# Altium footprint library Connector_Molex.PcbLib: 815 footprints (part 38 of 51)
Each footprint in its own frame and in the unit in brackets; x right, y up, seen from the top. Pads: shape width x height; smd on the part's side, far side on the other; paste and mask are expansions set on the pad; w line width, h text height; cw(c..) or ccw(c..) is an arc to the next point about the centre after c.
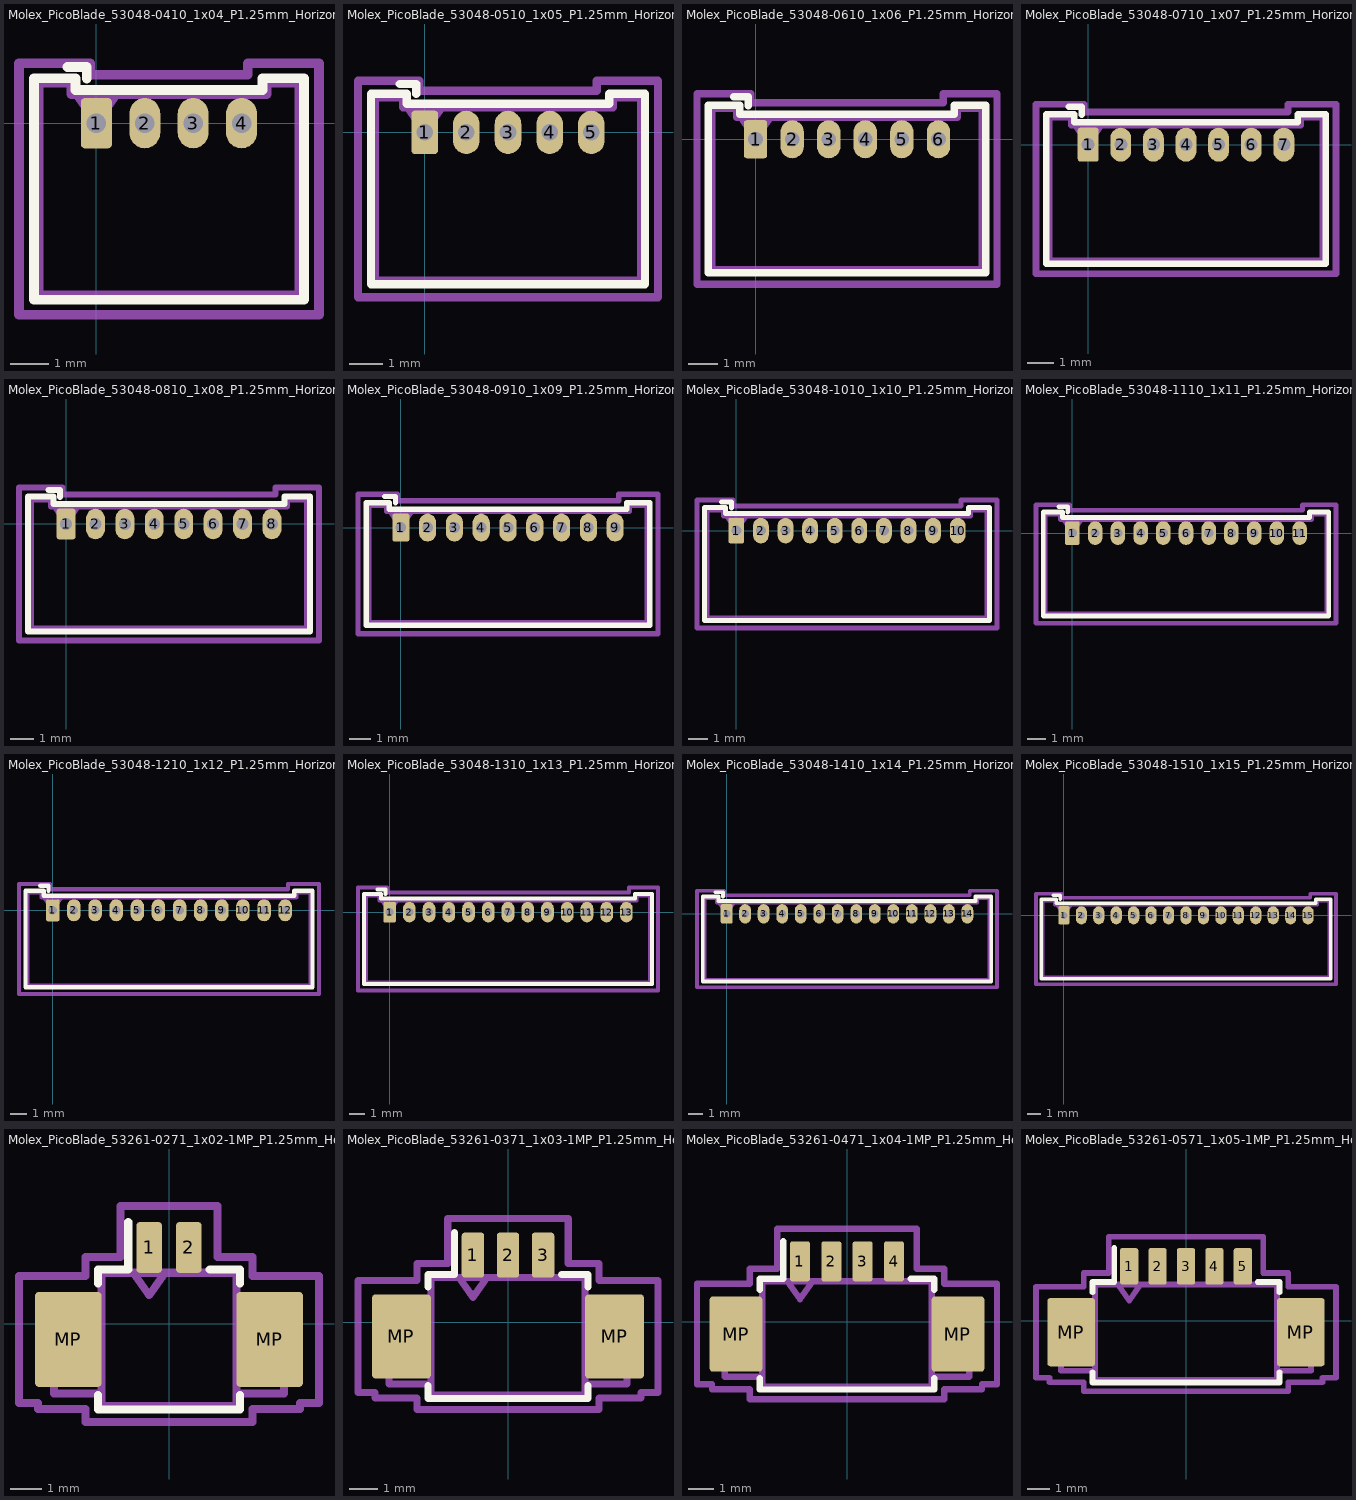
[diagram p37: the footprints below, top view; thin cyan lines are the x and y axes]

## Molex_PicoBlade_53048-0410_1x04_P1.25mm_Horizontal [mm]
pads (4):
  rrect25% 0.8x1.3 hole 0.5: 1(0,0)
  rrect100% 0.8x1.3 hole 0.5: 2(1.25,0) 3(2.5,0) 4(3.75,0)
F.SilkS:
  lines w0.254: -0.75,1.45 -0.25,1.45 -0.25,1.15 ; -1.61,-4.56 1.875,-4.56 5.36,-4.56 5.36,1.16 4.29,1.16 4.29,0.86 1.875,0.86 -0.54,0.86 -0.54,1.16 -1.61,1.16 -1.61,-4.56
Top Assembly:
  lines w0.254: -0.5,0.75 0,0.043 0.5,0.75 ; -1.5,-4.45 1.875,-4.45 5.25,-4.45 5.25,1.05 4.4,1.05 4.4,0.75 1.875,0.75 -0.65,0.75 -0.65,1.05 -1.5,1.05 -1.5,-4.45
  text "'.Designator'" at -2.167,-4.59 h1
Top Courtyard:
  lines w0.254: 1.87,-4.95 5.75,-4.95 5.75,1.55 3.91,1.55 3.91,1.25 1.87,1.25 ; 1.88,-4.95 -2,-4.95 -2,1.55 -0.16,1.55 -0.16,1.25 1.88,1.25
Top Designator:
  text ".Designator" at -5.837,-2.208 h1.52

## Molex_PicoBlade_53048-0510_1x05_P1.25mm_Horizontal [mm]
pads (5):
  rrect25% 0.8x1.3 hole 0.5: 1(0,0)
  rrect100% 0.8x1.3 hole 0.5: 2(1.25,0) 3(2.5,0) 4(3.75,0) 5(5,0)
F.SilkS:
  lines w0.254: -0.75,1.45 -0.25,1.45 -0.25,1.15 ; -1.61,-4.56 2.5,-4.56 6.61,-4.56 6.61,1.16 5.54,1.16 5.54,0.86 2.5,0.86 -0.54,0.86 -0.54,1.16 -1.61,1.16 -1.61,-4.56
Top Assembly:
  lines w0.254: -0.5,0.75 0,0.043 0.5,0.75 ; -1.5,-4.45 2.5,-4.45 6.5,-4.45 6.5,1.05 5.65,1.05 5.65,0.75 2.5,0.75 -0.65,0.75 -0.65,1.05 -1.5,1.05 -1.5,-4.45
  text "'.Designator'" at -1.547,-4.59 h1
Top Courtyard:
  lines w0.254: -2,-4.95 2.5,-4.95 7,-4.95 7,1.55 5.16,1.55 5.16,1.25 2.5,1.25 -0.16,1.25 -0.16,1.55 -2,1.55 -2,-4.95
Top Designator:
  text ".Designator" at -5.118,-2.208 h1.52

## Molex_PicoBlade_53048-0610_1x06_P1.25mm_Horizontal [mm]
pads (6):
  rrect25% 0.8x1.3 hole 0.5: 1(0,0)
  rrect100% 0.8x1.3 hole 0.5: 2(1.25,0) 3(2.5,0) 4(3.75,0) 5(5,0) 6(6.25,0)
F.SilkS:
  lines w0.254: -0.75,1.45 -0.25,1.45 -0.25,1.15 ; -1.61,-4.56 3.125,-4.56 7.86,-4.56 7.86,1.16 6.79,1.16 6.79,0.86 3.125,0.86 -0.54,0.86 -0.54,1.16 -1.61,1.16 -1.61,-4.56
Top Assembly:
  lines w0.254: -0.5,0.75 0,0.043 0.5,0.75 ; -1.5,-4.45 3.125,-4.45 7.75,-4.45 7.75,1.05 6.9,1.05 6.9,0.75 3.125,0.75 -0.65,0.75 -0.65,1.05 -1.5,1.05 -1.5,-4.45
  text "'.Designator'" at -0.927,-4.59 h1
Top Courtyard:
  lines w0.254: 3.12,-4.95 8.25,-4.95 8.25,1.55 6.41,1.55 6.41,1.25 3.12,1.25 ; 3.13,-4.95 -2,-4.95 -2,1.55 -0.16,1.55 -0.16,1.25 3.13,1.25
Top Designator:
  text ".Designator" at -4.493,-2.208 h1.52

## Molex_PicoBlade_53048-0710_1x07_P1.25mm_Horizontal [mm]
pads (7):
  rrect25% 0.8x1.3 hole 0.5: 1(0,0)
  rrect100% 0.8x1.3 hole 0.5: 2(1.25,0) 3(2.5,0) 4(3.75,0) 5(5,0) 6(6.25,0) 7(7.5,0)
F.SilkS:
  lines w0.254: -0.75,1.45 -0.25,1.45 -0.25,1.15 ; -1.61,-4.56 3.75,-4.56 9.11,-4.56 9.11,1.16 8.04,1.16 8.04,0.86 3.75,0.86 -0.54,0.86 -0.54,1.16 -1.61,1.16 -1.61,-4.56
Top Assembly:
  lines w0.254: -0.5,0.75 0,0.043 0.5,0.75 ; -1.5,-4.45 3.75,-4.45 9,-4.45 9,1.05 8.15,1.05 8.15,0.75 3.75,0.75 -0.65,0.75 -0.65,1.05 -1.5,1.05 -1.5,-4.45
  text "'.Designator'" at -0.297,-4.59 h1
Top Courtyard:
  lines w0.254: -2,-4.95 3.75,-4.95 9.5,-4.95 9.5,1.55 7.66,1.55 7.66,1.25 3.75,1.25 -0.16,1.25 -0.16,1.55 -2,1.55 -2,-4.95
Top Designator:
  text ".Designator" at -3.868,-2.208 h1.52

## Molex_PicoBlade_53048-0810_1x08_P1.25mm_Horizontal [mm]
pads (8):
  rrect25% 0.8x1.3 hole 0.5: 1(0,0)
  rrect100% 0.8x1.3 hole 0.5: 2(1.25,0) 3(2.5,0) 4(3.75,0) 5(5,0) 6(6.25,0) 7(7.5,0) 8(8.75,0)
F.SilkS:
  lines w0.254: -0.75,1.45 -0.25,1.45 -0.25,1.15 ; -1.61,-4.56 4.375,-4.56 10.36,-4.56 10.36,1.16 9.29,1.16 9.29,0.86 4.375,0.86 -0.54,0.86 -0.54,1.16 -1.61,1.16 -1.61,-4.56
Top Assembly:
  lines w0.254: -0.5,0.75 0,0.043 0.5,0.75 ; -1.5,-4.45 4.375,-4.45 10.25,-4.45 10.25,1.05 9.4,1.05 9.4,0.75 4.375,0.75 -0.65,0.75 -0.65,1.05 -1.5,1.05 -1.5,-4.45
  text "'.Designator'" at 0.333,-4.59 h1
Top Courtyard:
  lines w0.254: 4.37,-4.95 10.75,-4.95 10.75,1.55 8.91,1.55 8.91,1.25 4.37,1.25 ; 4.38,-4.95 -2,-4.95 -2,1.55 -0.16,1.55 -0.16,1.25 4.38,1.25
Top Designator:
  text ".Designator" at -3.243,-2.208 h1.52

## Molex_PicoBlade_53048-0910_1x09_P1.25mm_Horizontal [mm]
pads (9):
  rrect25% 0.8x1.3 hole 0.5: 1(0,0)
  rrect100% 0.8x1.3 hole 0.5: 2(1.25,0) 3(2.5,0) 4(3.75,0) 5(5,0) 6(6.25,0) 7(7.5,0) 8(8.75,0) 9(10,0)
F.SilkS:
  lines w0.254: -0.75,1.45 -0.25,1.45 -0.25,1.15 ; -1.61,-4.56 5,-4.56 11.61,-4.56 11.61,1.16 10.54,1.16 10.54,0.86 5,0.86 -0.54,0.86 -0.54,1.16 -1.61,1.16 -1.61,-4.56
Top Assembly:
  lines w0.254: -0.5,0.75 0,0.043 0.5,0.75 ; -1.5,-4.45 5,-4.45 11.5,-4.45 11.5,1.05 10.65,1.05 10.65,0.75 5,0.75 -0.65,0.75 -0.65,1.05 -1.5,1.05 -1.5,-4.45
  text "'.Designator'" at 0.953,-4.59 h1
Top Courtyard:
  lines w0.254: -2,-4.95 5,-4.95 12,-4.95 12,1.55 10.16,1.55 10.16,1.25 5,1.25 -0.16,1.25 -0.16,1.55 -2,1.55 -2,-4.95
Top Designator:
  text ".Designator" at -2.618,-2.208 h1.52

## Molex_PicoBlade_53048-1010_1x10_P1.25mm_Horizontal [mm]
pads (10):
  rrect25% 0.8x1.3 hole 0.5: 1(0,0)
  rrect100% 0.8x1.3 hole 0.5: 2(1.25,0) 3(2.5,0) 4(3.75,0) 5(5,0) 6(6.25,0) 7(7.5,0) 8(8.75,0) 9(10,0) 10(11.25,0)
F.SilkS:
  lines w0.254: -0.75,1.45 -0.25,1.45 -0.25,1.15 ; -1.61,-4.56 5.625,-4.56 12.86,-4.56 12.86,1.16 11.79,1.16 11.79,0.86 5.625,0.86 -0.54,0.86 -0.54,1.16 -1.61,1.16 -1.61,-4.56
Top Assembly:
  lines w0.254: -0.5,0.75 0,0.043 0.5,0.75 ; -1.5,-4.45 5.625,-4.45 12.75,-4.45 12.75,1.05 11.9,1.05 11.9,0.75 5.625,0.75 -0.65,0.75 -0.65,1.05 -1.5,1.05 -1.5,-4.45
  text "'.Designator'" at 1.573,-4.59 h1
Top Courtyard:
  lines w0.254: 5.62,-4.95 13.25,-4.95 13.25,1.55 11.41,1.55 11.41,1.25 5.62,1.25 ; 5.63,-4.95 -2,-4.95 -2,1.55 -0.16,1.55 -0.16,1.25 5.63,1.25
Top Designator:
  text ".Designator" at -1.993,-2.208 h1.52

## Molex_PicoBlade_53048-1110_1x11_P1.25mm_Horizontal [mm]
pads (11):
  rrect25% 0.8x1.3 hole 0.5: 1(0,0)
  rrect100% 0.8x1.3 hole 0.5: 2(1.25,0) 3(2.5,0) 4(3.75,0) 5(5,0) 6(6.25,0) 7(7.5,0) 8(8.75,0) 9(10,0) 10(11.25,0) 11(12.5,0)
F.SilkS:
  lines w0.254: -0.75,1.45 -0.25,1.45 -0.25,1.15 ; -1.61,-4.56 6.25,-4.56 14.11,-4.56 14.11,1.16 13.04,1.16 13.04,0.86 6.25,0.86 -0.54,0.86 -0.54,1.16 -1.61,1.16 -1.61,-4.56
Top Assembly:
  lines w0.254: -0.5,0.75 0,0.043 0.5,0.75 ; -1.5,-4.45 6.25,-4.45 14,-4.45 14,1.05 13.15,1.05 13.15,0.75 6.25,0.75 -0.65,0.75 -0.65,1.05 -1.5,1.05 -1.5,-4.45
  text "'.Designator'" at 2.203,-4.59 h1
Top Courtyard:
  lines w0.254: -2,-4.95 6.25,-4.95 14.5,-4.95 14.5,1.55 12.66,1.55 12.66,1.25 6.25,1.25 -0.16,1.25 -0.16,1.55 -2,1.55 -2,-4.95
Top Designator:
  text ".Designator" at -1.368,-2.208 h1.52

## Molex_PicoBlade_53048-1210_1x12_P1.25mm_Horizontal [mm]
pads (12):
  rrect25% 0.8x1.3 hole 0.5: 1(0,0)
  rrect100% 0.8x1.3 hole 0.5: 2(1.25,0) 3(2.5,0) 4(3.75,0) 5(5,0) 6(6.25,0) 7(7.5,0) 8(8.75,0) 9(10,0) 10(11.25,0) 11(12.5,0) 12(13.75,0)
F.SilkS:
  lines w0.254: -0.75,1.45 -0.25,1.45 -0.25,1.15 ; -1.61,-4.56 6.875,-4.56 15.36,-4.56 15.36,1.16 14.29,1.16 14.29,0.86 6.875,0.86 -0.54,0.86 -0.54,1.16 -1.61,1.16 -1.61,-4.56
Top Assembly:
  lines w0.254: -0.5,0.75 0,0.043 0.5,0.75 ; -1.5,-4.45 6.875,-4.45 15.25,-4.45 15.25,1.05 14.4,1.05 14.4,0.75 6.875,0.75 -0.65,0.75 -0.65,1.05 -1.5,1.05 -1.5,-4.45
  text "'.Designator'" at 2.833,-4.59 h1
Top Courtyard:
  lines w0.254: 6.87,-4.95 15.75,-4.95 15.75,1.55 13.91,1.55 13.91,1.25 6.87,1.25 ; 6.88,-4.95 -2,-4.95 -2,1.55 -0.16,1.55 -0.16,1.25 6.88,1.25
Top Designator:
  text ".Designator" at -0.743,-2.208 h1.52

## Molex_PicoBlade_53048-1310_1x13_P1.25mm_Horizontal [mm]
pads (13):
  rrect25% 0.8x1.3 hole 0.5: 1(0,0)
  rrect100% 0.8x1.3 hole 0.5: 2(1.25,0) 3(2.5,0) 4(3.75,0) 5(5,0) 6(6.25,0) 7(7.5,0) 8(8.75,0) 9(10,0) 10(11.25,0) 11(12.5,0) 12(13.75,0) 13(15,0)
F.SilkS:
  lines w0.254: -0.75,1.45 -0.25,1.45 -0.25,1.15 ; -1.61,-4.56 7.5,-4.56 16.61,-4.56 16.61,1.16 15.54,1.16 15.54,0.86 7.5,0.86 -0.54,0.86 -0.54,1.16 -1.61,1.16 -1.61,-4.56
Top Assembly:
  lines w0.254: -0.5,0.75 0,0.043 0.5,0.75 ; -1.5,-4.45 7.5,-4.45 16.5,-4.45 16.5,1.05 15.65,1.05 15.65,0.75 7.5,0.75 -0.65,0.75 -0.65,1.05 -1.5,1.05 -1.5,-4.45
  text "'.Designator'" at 3.453,-4.59 h1
Top Courtyard:
  lines w0.254: -2,-4.95 7.5,-4.95 17,-4.95 17,1.55 15.16,1.55 15.16,1.25 7.5,1.25 -0.16,1.25 -0.16,1.55 -2,1.55 -2,-4.95
Top Designator:
  text ".Designator" at -0.118,-2.208 h1.52

## Molex_PicoBlade_53048-1410_1x14_P1.25mm_Horizontal [mm]
pads (14):
  rrect25% 0.8x1.3 hole 0.5: 1(0,0)
  rrect100% 0.8x1.3 hole 0.5: 2(1.25,0) 3(2.5,0) 4(3.75,0) 5(5,0) 6(6.25,0) 7(7.5,0) 8(8.75,0) 9(10,0) 10(11.25,0) 11(12.5,0) 12(13.75,0) 13(15,0) 14(16.25,0)
F.SilkS:
  lines w0.254: -0.75,1.45 -0.25,1.45 -0.25,1.15 ; -1.61,-4.56 8.125,-4.56 17.86,-4.56 17.86,1.16 16.79,1.16 16.79,0.86 8.125,0.86 -0.54,0.86 -0.54,1.16 -1.61,1.16 -1.61,-4.56
Top Assembly:
  lines w0.254: -0.5,0.75 0,0.043 0.5,0.75 ; -1.5,-4.45 8.125,-4.45 17.75,-4.45 17.75,1.05 16.9,1.05 16.9,0.75 8.125,0.75 -0.65,0.75 -0.65,1.05 -1.5,1.05 -1.5,-4.45
  text "'.Designator'" at 4.073,-4.59 h1
Top Courtyard:
  lines w0.254: 8.12,-4.95 18.25,-4.95 18.25,1.55 16.41,1.55 16.41,1.25 8.12,1.25 ; 8.13,-4.95 -2,-4.95 -2,1.55 -0.16,1.55 -0.16,1.25 8.13,1.25
Top Designator:
  text ".Designator" at 0.507,-2.208 h1.52

## Molex_PicoBlade_53048-1510_1x15_P1.25mm_Horizontal [mm]
pads (15):
  rrect25% 0.8x1.3 hole 0.5: 1(0,0)
  rrect100% 0.8x1.3 hole 0.5: 2(1.25,0) 3(2.5,0) 4(3.75,0) 5(5,0) 6(6.25,0) 7(7.5,0) 8(8.75,0) 9(10,0) 10(11.25,0) 11(12.5,0) 12(13.75,0) 13(15,0) 14(16.25,0) 15(17.5,0)
F.SilkS:
  lines w0.254: -0.75,1.45 -0.25,1.45 -0.25,1.15 ; -1.61,-4.56 8.75,-4.56 19.11,-4.56 19.11,1.16 18.04,1.16 18.04,0.86 8.75,0.86 -0.54,0.86 -0.54,1.16 -1.61,1.16 -1.61,-4.56
Top Assembly:
  lines w0.254: -0.5,0.75 0,0.043 0.5,0.75 ; -1.5,-4.45 8.75,-4.45 19,-4.45 19,1.05 18.15,1.05 18.15,0.75 8.75,0.75 -0.65,0.75 -0.65,1.05 -1.5,1.05 -1.5,-4.45
  text "'.Designator'" at 4.703,-4.59 h1
Top Courtyard:
  lines w0.254: -2,-4.95 8.75,-4.95 19.5,-4.95 19.5,1.55 17.66,1.55 17.66,1.25 8.75,1.25 -0.16,1.25 -0.16,1.55 -2,1.55 -2,-4.95
Top Designator:
  text ".Designator" at 1.132,-2.208 h1.52

## Molex_PicoBlade_53261-0271_1x02-1MP_P1.25mm_Horizontal [mm]
pads (4):
  rrect25% 0.8x1.6 smd: 1(-0.625,2.4) 2(0.625,2.4)
  rrect12% 2.1x3 smd: MP(-3.175,-0.5) MP(3.175,-0.5)
F.SilkS:
  lines w0.254: -2.235,-2.26 -2.235,-2.71 2.235,-2.71 2.235,-2.26 ; -2.235,1.26 -2.235,1.71 -1.285,1.71 -1.285,3.2 ; 1.285,1.71 2.235,1.71 2.235,1.26
Top Assembly:
  lines w0.254: -2.125,-2.2 -3.625,-2.2 -3.625,-1.6 -3.825,-1.4 -3.825,0.4 -3.625,0.6 -2.125,0.6 ; -1.125,1.6 -0.625,0.893 -0.125,1.6 ; 2.125,-2.2 3.625,-2.2 3.625,-1.6 3.825,-1.4 3.825,0.4 3.625,0.6 2.125,0.6 ; -2.125,-2.6 2.125,-2.6 2.125,1.6 -2.125,1.6 -2.125,-2.6
  text "'.Designator'" at -4.047,-2.74 h1
Top Courtyard:
  lines w0.254: -4.73,-2.5 -4.13,-2.5 -4.13,-2.7 -2.63,-2.7 -2.63,-3.1 2.63,-3.1 2.63,-2.7 4.13,-2.7 4.13,-2.5 4.73,-2.5 4.73,1.5 2.63,1.5 2.63,2.1 1.53,2.1 1.53,3.7 -1.53,3.7 -1.53,2.1 -2.63,2.1 -2.63,1.5 -4.73,1.5 -4.73,-2.5
Top Designator:
  text ".Designator" at -7.618,-0.208 h1.52

## Molex_PicoBlade_53261-0371_1x03-1MP_P1.25mm_Horizontal [mm]
pads (5):
  rrect25% 0.8x1.6 smd: 1(-1.25,2.4) 2(0,2.4) 3(1.25,2.4)
  rrect12% 2.1x3 smd: MP(-3.8,-0.5) MP(3.8,-0.5)
F.SilkS:
  lines w0.254: -2.86,-2.26 -2.86,-2.71 2.86,-2.71 2.86,-2.26 ; -2.86,1.26 -2.86,1.71 -1.91,1.71 -1.91,3.2 ; 1.91,1.71 2.86,1.71 2.86,1.26
Top Assembly:
  lines w0.254: -2.75,-2.2 -4.25,-2.2 -4.25,-1.6 -4.45,-1.4 -4.45,0.4 -4.25,0.6 -2.75,0.6 ; -1.75,1.6 -1.25,0.893 -0.75,1.6 ; 2.75,-2.2 4.25,-2.2 4.25,-1.6 4.45,-1.4 4.45,0.4 4.25,0.6 2.75,0.6 ; -2.75,-2.6 2.75,-2.6 2.75,1.6 -2.75,1.6 -2.75,-2.6
  text "'.Designator'" at -4.047,-2.74 h1
Top Courtyard:
  lines w0.254: -5.35,-2.5 -4.75,-2.5 -4.75,-2.7 -3.25,-2.7 -3.25,-3.1 3.25,-3.1 3.25,-2.7 4.75,-2.7 4.75,-2.5 5.35,-2.5 5.35,1.5 3.25,1.5 3.25,2.1 2.15,2.1 2.15,3.7 -2.15,3.7 -2.15,2.1 -3.25,2.1 -3.25,1.5 -5.35,1.5 -5.35,-2.5
Top Designator:
  text ".Designator" at -7.618,-0.208 h1.52

## Molex_PicoBlade_53261-0471_1x04-1MP_P1.25mm_Horizontal [mm]
pads (6):
  rrect25% 0.8x1.6 smd: 1(-1.875,2.4) 2(-0.625,2.4) 3(0.625,2.4) 4(1.875,2.4)
  rrect12% 2.1x3 smd: MP(-4.425,-0.5) MP(4.425,-0.5)
F.SilkS:
  lines w0.254: -3.485,-2.26 -3.485,-2.71 3.485,-2.71 3.485,-2.26 ; -3.485,1.26 -3.485,1.71 -2.535,1.71 -2.535,3.2 ; 2.535,1.71 3.485,1.71 3.485,1.26
Top Assembly:
  lines w0.254: -3.375,-2.2 -4.875,-2.2 -4.875,-1.6 -5.075,-1.4 -5.075,0.4 -4.875,0.6 -3.375,0.6 ; -2.375,1.6 -1.875,0.893 -1.375,1.6 ; 3.375,-2.2 4.875,-2.2 4.875,-1.6 5.075,-1.4 5.075,0.4 4.875,0.6 3.375,0.6 ; -3.375,-2.6 3.375,-2.6 3.375,1.6 -3.375,1.6 -3.375,-2.6
  text "'.Designator'" at -4.047,-2.74 h1
Top Courtyard:
  lines w0.254: -5.98,-2.5 -5.38,-2.5 -5.38,-2.7 -3.88,-2.7 -3.88,-3.1 3.88,-3.1 3.88,-2.7 5.38,-2.7 5.38,-2.5 5.98,-2.5 5.98,1.5 3.88,1.5 3.88,2.1 2.78,2.1 2.78,3.7 -2.78,3.7 -2.78,2.1 -3.88,2.1 -3.88,1.5 -5.98,1.5 -5.98,-2.5
Top Designator:
  text ".Designator" at -7.618,-0.208 h1.52

## Molex_PicoBlade_53261-0571_1x05-1MP_P1.25mm_Horizontal [mm]
pads (7):
  rrect25% 0.8x1.6 smd: 1(-2.5,2.4) 2(-1.25,2.4) 3(0,2.4) 4(1.25,2.4) 5(2.5,2.4)
  rrect12% 2.1x3 smd: MP(-5.05,-0.5) MP(5.05,-0.5)
F.SilkS:
  lines w0.254: -4.11,-2.26 -4.11,-2.71 4.11,-2.71 4.11,-2.26 ; -4.11,1.26 -4.11,1.71 -3.16,1.71 -3.16,3.2 ; 3.16,1.71 4.11,1.71 4.11,1.26
Top Assembly:
  lines w0.254: -4,-2.2 -5.5,-2.2 -5.5,-1.6 -5.7,-1.4 -5.7,0.4 -5.5,0.6 -4,0.6 ; -3,1.6 -2.5,0.893 -2,1.6 ; 4,-2.2 5.5,-2.2 5.5,-1.6 5.7,-1.4 5.7,0.4 5.5,0.6 4,0.6 ; -4,-2.6 4,-2.6 4,1.6 -4,1.6 -4,-2.6
  text "'.Designator'" at -4.047,-2.74 h1
Top Courtyard:
  lines w0.254: -6.6,-2.5 -6,-2.5 -6,-2.7 -4.5,-2.7 -4.5,-3.1 4.5,-3.1 4.5,-2.7 6,-2.7 6,-2.5 6.6,-2.5 6.6,1.5 4.5,1.5 4.5,2.1 3.4,2.1 3.4,3.7 -3.4,3.7 -3.4,2.1 -4.5,2.1 -4.5,1.5 -6.6,1.5 -6.6,-2.5
Top Designator:
  text ".Designator" at -7.618,-0.208 h1.52